# Altium footprint library OKI78SR515W36EC.PcbLib: 1 footprints
Each footprint in its own frame and in the unit in brackets; x right, y up, seen from the top. Pads: shape width x height; smd on the part's side, far side on the other; paste and mask are expansions set on the pad; w line width, h text height; cw(c..) or ccw(c..) is an arc to the next point about the centre after c.
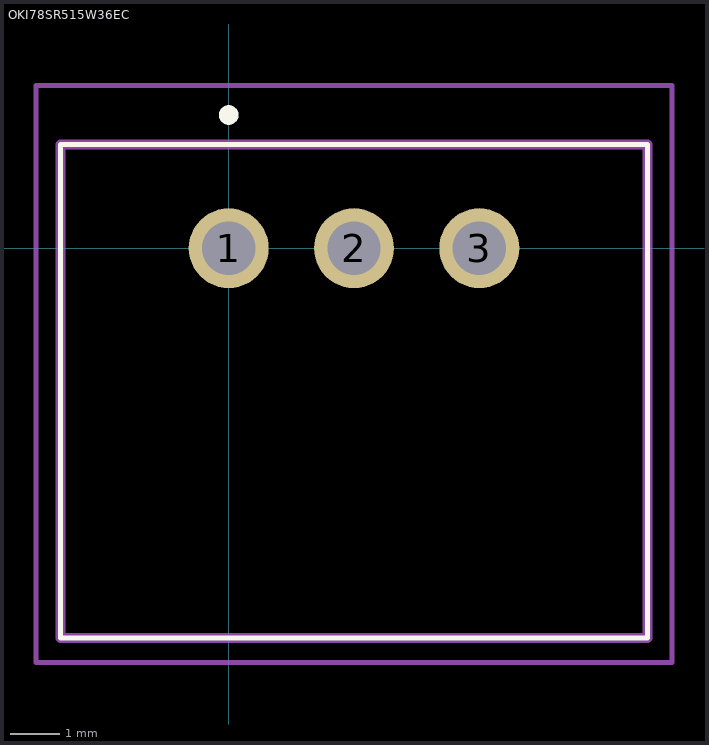
[diagram p0: the footprint, top view; thin cyan lines are the x and y axes]

## OKI78SR515W36EC [mm]
pads (3):
  round 1.62 hole 1.08: 1(0,0) 2(2.54,0) 3(5.08,0)
Top Overlay:
  lines w0.1: -3.41,-7.9 8.49,-7.9 8.49,2.1 -3.41,2.1 -3.41,-7.9
  lines w0.2: -0.1,2.7 -0.1,2.7 ; -0.1,2.7 ccw(c0,2.7) 0.1,2.7 ; -0.1,2.7 cw(c0,2.7) 0.1,2.7 ; 0.1,2.7 0.1,2.7
Mechanical 15:
  lines w0.2: -3.41,-7.9 8.49,-7.9 8.49,2.1 -3.41,2.1 -3.41,-7.9
Mechanical 20:
  lines w0.1: -3.91,-8.4 8.99,-8.4 8.99,3.3 -3.91,3.3 -3.91,-8.4